# Altium footprint library FootPrnt_fact.PcbLib: 87 footprints (part 3 of 6)
Each footprint in its own frame and in the unit in brackets; x right, y up, seen from the top. Pads: shape width x height; smd on the part's side, far side on the other; paste and mask are expansions set on the pad; w line width, h text height; cw(c..) or ccw(c..) is an arc to the next point about the centre after c.
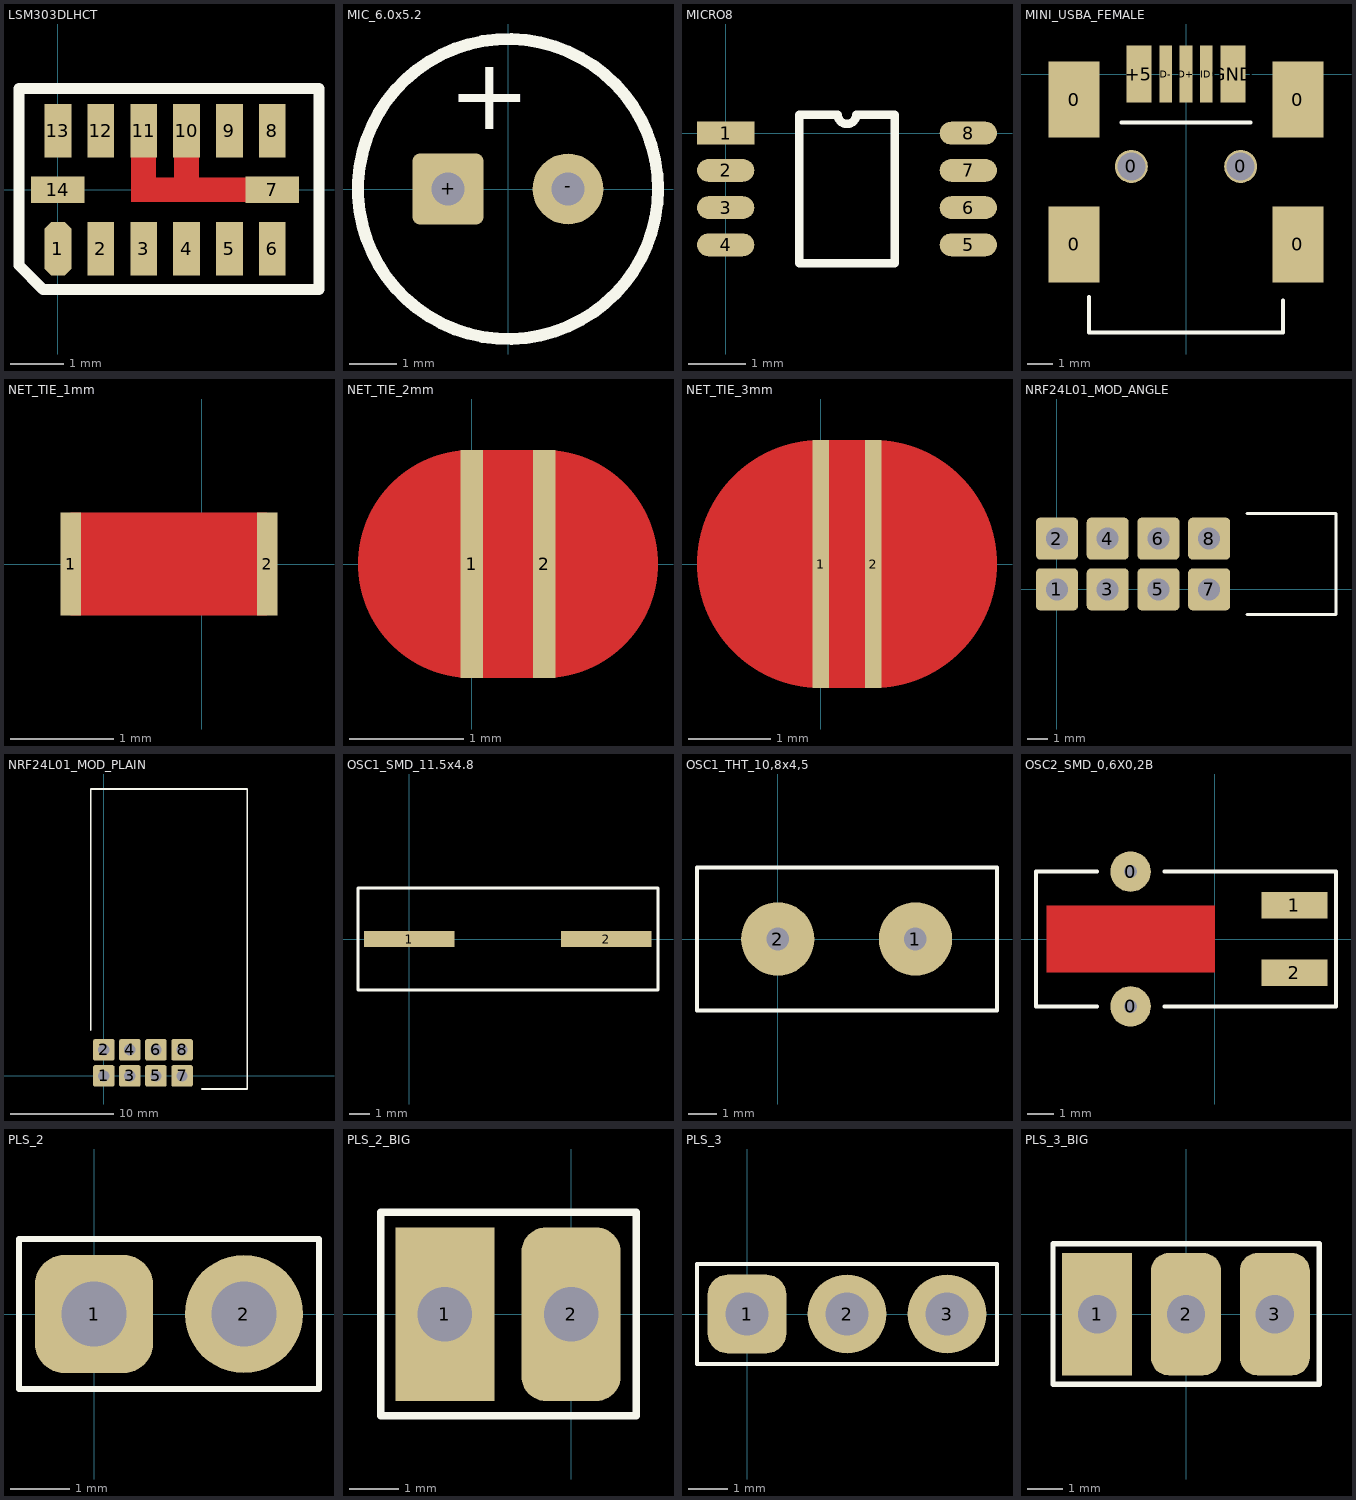
[diagram p2: the footprints below, top view; thin cyan lines are the x and y axes]

## LSM303DLHCT [mm]
pads (14):
  oct 0.5x1 smd: 1(0,-1.1)
  rect 0.5x1 smd: 2(0.8,-1.1) 3(1.6,-1.1) 4(2.4,-1.1) 5(3.2,-1.1) 6(4,-1.1) 8(4,1.1) 9(3.2,1.1) 10(2.4,1.1) 11(1.6,1.1) 12(0.8,1.1) 13(0,1.1)
  rect 1x0.5 smd: 7(4,0) 14(0,0)
Top Layer:
  rectangle: 1.365,0.186 1.834,0.742
  rectangle: 2.163,0.206 2.638,0.685
  rectangle: 1.365,-0.233 3.542,0.232
Top Overlay:
  lines w0.2: -0.727,-1.41 -0.727,1.89 4.873,1.89 4.873,-1.86 -0.277,-1.86 -0.727,-1.41

## MIC_6.0x5.2 [mm]
pads (2):
  rrect20% 1.5x1.5 hole 0.7: +(-1.27,0)
  round 1.5 hole 0.7: -(1.27,0)
Top Overlay:
  circle w0.254: c0,0 r3.175
  text "+" at -1.27,1.27 h1.52

## MICRO8 [mm]
pads (8):
  rect 1x0.4 smd: 1(0,0)
  oval 1x0.4 smd: 2(0,-0.65) 3(0,-1.3) 4(0,-1.95) 5(4.24,-1.95) 6(4.24,-1.3) 7(4.24,-0.65) 8(4.24,0)
Top Overlay:
  lines w0.15: 1.285,-2.275 1.285,0.325 1.957,0.325 ccw(c2.12,0.325) 2.282,0.325 2.955,0.325 2.955,-2.275 1.285,-2.275

## MINI_USBA_FEMALE [mm]
pads (11):
  rect 2x3 smd: 0(-4.4,-6.7) 0(-4.4,-1) 0(4.4,-6.7) 0(4.4,-1)
  round 1.3 hole 1.1: 0(-2.15,-3.63) 0(2.15,-3.63)
  rect 1x2.25 smd: +5(-1.85,0) GND(1.85,0)
  rect 0.5x2.25 smd: D+(0,0) D-(-0.8,0) ID(0.8,0)
Top Overlay:
  lines w0.15: -3.81,-8.761 -3.81,-10.16 3.81,-10.16 3.81,-8.89 ; -2.54,-1.905 2.54,-1.905

## NET_TIE_1mm [mm]
pads (2):
  rect 0.2x1 smd paste+0 mask+0: 1(-1.27,0) 2(0.635,0)
Top Layer:
  rectangle: -1.27,-0.499 0.631,0.5

## NET_TIE_2mm [mm]
pads (2):
  rect 0.2x2 smd paste+0 mask+0: 1(0,0) 2(0.635,0)
Top Layer:
  lines w2: 0,0 0.635,0

## NET_TIE_3mm [mm]
pads (2):
  rect 0.2x3 smd paste+0 mask+0: 1(0,0) 2(0.635,0)
Top Layer:
  lines w3: 0,0 0.635,0

## NRF24L01_MOD_ANGLE [mm]
pads (8):
  rrect20% 2.1x2.1 hole 1.1: 1(0,0) 2(0,2.54) 3(2.54,0) 4(2.54,2.54) 5(5.08,0) 6(5.08,2.54) 7(7.62,0) 8(7.62,2.54)
Top Overlay:
  lines w0.15: 9.525,-1.27 13.97,-1.27 13.97,3.81 9.525,3.81

## NRF24L01_MOD_PLAIN [mm]
pads (8):
  rrect20% 2.1x2.1 hole 1.1: 1(0,0) 2(0,2.54) 3(2.54,0) 4(2.54,2.54) 5(5.08,0) 6(5.08,2.54) 7(7.62,0) 8(7.62,2.54)
Top Overlay:
  lines w0.15: -1.27,4.445 -1.27,27.94 13.97,27.94 13.97,-1.27 9.525,-1.27

## OSC1_SMD_11.5x4.8 [mm]
pads (2):
  rect 4.5x0.8 smd: 1(0,0) 2(9.8,0)
Top Overlay:
  lines w0.15: -2.54,-2.54 -2.54,1.27 -2.54,2.54 12.364,2.54 12.364,-2.54 -2.54,-2.54

## OSC1_THT_10,8x4,5 [mm]
pads (2):
  round 2.6 hole 0.8: 1(4.88,0) 2(0,0)
Top Overlay:
  lines w0.15: -2.866,-2.54 7.772,-2.54 7.772,2.54 -2.866,2.54 -2.866,-2.54

## OSC2_SMD_0,6X0,2B [mm]
pads (4):
  round 1.524 hole 0.5: 0(-3.175,-2.54) 0(-3.175,2.54)
  rect 2.5x1 smd: 1(3,1.27) 2(3,-1.27)
Top Layer:
  rectangle: -6.35,-1.27 0,1.27
Top Overlay:
  lines w0.15: -4.445,-2.54 -6.74,-2.54 -6.74,2.54 -4.445,2.54 ; -1.905,-2.54 4.567,-2.54 4.567,2.541 -1.905,2.54

## PLS_2 [mm]
pads (2):
  rrect50% 2x2 hole 1.1: 1(0,0)
  round 2 hole 1.1: 2(2.54,0)
Top Overlay:
  lines w0.1: -1.27,-1.27 -1.27,1.27 3.81,1.27 3.81,-1.27 -1.27,-1.27

## PLS_2_BIG [mm]
pads (2):
  rect 2x3.5 hole 1.1: 1(-2.54,0)
  rrect50% 2x3.5 hole 1.1: 2(0,0)
Top Overlay:
  lines w0.15: -3.831,-2.045 -3.831,2.052 1.313,2.052 1.313,-2.045 -3.831,-2.045

## PLS_3 [mm]
pads (3):
  rrect50% 2x2 hole 1.1: 1(0,0)
  round 2 hole 1.1: 2(2.54,0) 3(5.08,0)
Top Overlay:
  lines w0.1: -1.27,-1.27 -1.27,1.27 6.35,1.27 6.35,-1.27 -1.27,-1.27

## PLS_3_BIG [mm]
pads (3):
  rect 2x3.5 hole 1.1: 1(-2.54,0)
  rrect50% 2x3.5 hole 1.1: 2(0,0) 3(2.54,0)
Top Overlay:
  lines w0.15: -3.803,-2.005 -3.803,2.014 3.812,2.014 3.812,-2.005 -3.803,-2.005